# Altium schematic symbol library Resistors.SchLib: 4 symbols
Pins are listed as number, name and electrical type; pins without a type are passive.

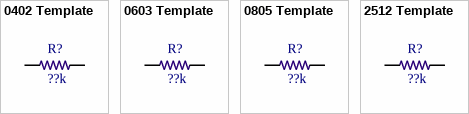
[diagram p0: symbols 0402 Template to 2512 Template]

## 0402 Template
designator R?  value ??k  (hidden comment: *)
Chip Resistor, 0402, 1??k ohms, 0.1W
footprint R0402-IPC
pins: 1, 2

## 0603 Template
designator R?  value ??k  (hidden comment: *)
Chip Resistor, 0603, ??k ohms, 0.1W
footprint R0603-IPC
pins: 1, 2

## 0805 Template
designator R?  value ??k  (hidden comment: *)
Chip Resistor, 0805, ??k ohms, 0.1W
footprint R0805-IPC
pins: 1, 2

## 2512 Template
designator R?  value ??k  (hidden comment: *)
Chip Resistor, 2515, ??k ohms
footprint R2512-IPC (Chip Resistor, 2-Leads, Body 6.35x3.10mm, IPC Low Density)
pins: 1, 2